# Altium schematic symbol library Schlib3.SchLib: 4 symbols
Pins are listed as number, name and electrical type; pins without a type are passive.

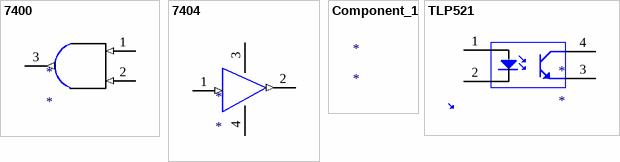
[diagram p0: symbols 7400 to TLP521]

## 7400
designator *
pins: 1 (in), 2 (in), 3 (out)

## 7404
designator *
pins: 1 (in), 2 (out), 3, 4

## Component_1
designator *

## TLP521
designator *
pins: 1, 2, 3, 4